# Altium footprint library Custom.PcbLib: 4 footprints
Each footprint in its own frame and in the unit in brackets; x right, y up, seen from the top. Pads: shape width x height; smd on the part's side, far side on the other; paste and mask are expansions set on the pad; w line width, h text height; cw(c..) or ccw(c..) is an arc to the next point about the centre after c.
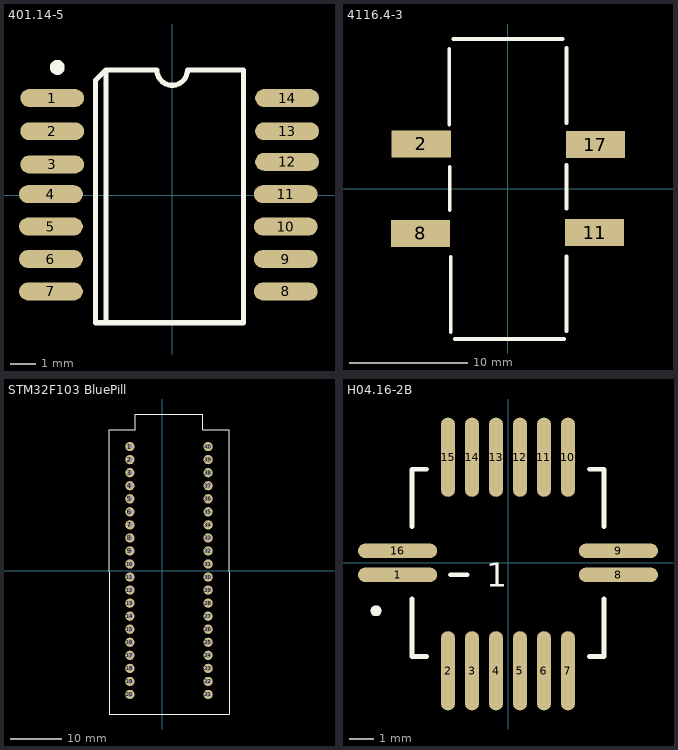
[diagram p0: the footprints below, top view; thin cyan lines are the x and y axes]

## 401.14-5 [mm] "SOIC, 16-Leads, Body 9.9x3.9mm, Pitch 1.27mm, IPC Low Density"
height 1.75
pads (14):
  oval 2.5x0.7 smd: 1(-4.7,3.8) 2(-4.7,2.5) 3(-4.7,1.2) 4(-4.75,0.035) 5(-4.75,-1.235) 6(-4.75,-2.505) 7(-4.75,-3.775) 8(4.45,-3.775) 9(4.45,-2.505) 10(4.45,-1.235) 11(4.45,0.035) 12(4.5,1.3) 13(4.5,2.5) 14(4.5,3.8)
Top Overlay:
  circle w0.3: c-4.5,5 r0.141
  lines w0.2: -2.6,-4.9 -2.6,4.9 ; -2.6,4.9 -3,4.5 -3,-5 2.8,-5 2.8,4.9 0.6,4.9 cw(c0,4.9) -0.6,4.9 -2.6,4.9
3D body "401.14-5.STEP": height 1.4, standoff 0, extent -5.05,-5 4.85,5

## 4116.4-3 [mm]
pads (4):
  rect 5x2.3 smd: 2(-7.315,3.785) 8(-7.366,-3.759) 11(7.29,-3.683) 17(7.366,3.734)
Top Overlay:
  lines w0.3: -4.953,5.41 -4.953,11.811 ; -4.902,-1.803 -4.902,1.88 ; -4.826,-12.065 -4.826,-5.715 ; -4.597,12.624 4.623,12.624 ; -4.47,-12.649 4.75,-12.649 ; 4.928,-12.014 4.928,-5.664 ; 4.928,-1.676 4.928,2.007 ; 4.928,5.537 4.928,11.887
3D body "4116_4-3-1.STEP": height 3.35, standoff 0, extent -8.801,-12.5 8.699,12.5

## STM32F103 BluePill [mm]
pads (40):
  round 1.8 hole 1: 1(-6.35,24.13) 2(-6.35,21.59) 3(-6.35,19.05) 4(-6.35,16.51) 5(-6.35,13.97) 6(-6.35,11.43) 7(-6.35,8.89) 8(-6.35,6.35) 9(-6.35,3.81) 10(-6.35,1.27) 11(-6.35,-1.27) 12(-6.35,-3.81) 13(-6.35,-6.35) 14(-6.35,-8.89) 15(-6.35,-11.43) 16(-6.35,-13.97) 17(-6.35,-16.51) 18(-6.35,-19.05) 19(-6.35,-21.59) 20(-6.35,-24.13) 21(8.89,-24.13) 22(8.89,-21.59) 23(8.89,-19.05) 24(8.89,-16.51) 25(8.89,-13.97) 26(8.89,-11.43) 27(8.89,-8.89) 28(8.89,-6.35) 29(8.89,-3.81) 30(8.89,-1.27) 31(8.89,1.27) 32(8.89,3.81) 33(8.89,6.35) 34(8.89,8.89) 35(8.89,11.43) 36(8.89,13.97) 37(8.89,16.51) 38(8.89,19.05) 39(8.89,21.59) 40(8.89,24.13)
Top Overlay:
  lines w0.2: -10.414,-27.94 12.954,-27.94 12.954,27.432 7.874,27.432 7.874,30.48 -5.334,30.48 -5.334,27.432 -10.414,27.432 -10.414,-27.94
3D body "STM32F103C8T6_Blue_Pill v6.step": height 12.28, standoff -5.99, extent -10.16,-27.588 12.7,29.972

## Н04.16-2В [mm]
pads (16):
  oval 3.3x0.6 smd: 1(-4.6,-0.5) 8(4.6,-0.5) 9(4.6,0.5) 16(-4.6,0.5)
  oval 0.6x3.3 smd: 2(-2.5,-4.5) 3(-1.5,-4.5) 4(-0.5,-4.5) 5(0.5,-4.5) 6(1.5,-4.5) 7(2.5,-4.5) 10(2.5,4.4) 11(1.5,4.4) 12(0.5,4.4) 13(-0.5,4.4) 14(-1.5,4.4) 15(-2.5,4.4)
Top Overlay:
  circle w0.254: c-5.5,-2 r0.1
  lines w0.2: -4,-1.5 -4,-3.7 -4,-3.9 -3.4,-3.9 ; -4,1.5 -4,3.7 -4,3.9 -3.4,3.9 ; -2.4,-0.5 -1.7,-0.5 ; 3.4,-3.9 4,-3.9 4,-3.7 4,-1.5 ; 3.4,3.9 4,3.9 4,3.7 4,1.5
  text "1" at -0.9,-1 h1
3D body "Н04.16-2В.stp": height 2.9, standoff 0, extent -6,-5.84 6,5.84